# EAGLE library part TPS630250RNCR (library TPS630250RNCR)
Switching Voltage Regulators 4-A switch single-in ductor buck-boost c A 595-TPS630250RNCT Source: Datasheet <https://www.ti.com/lit/ds/symlink/tps630252.pdf?ts=1777081971757&ref_url=https%3A%2F%2Fwww.mouser.com%2F>
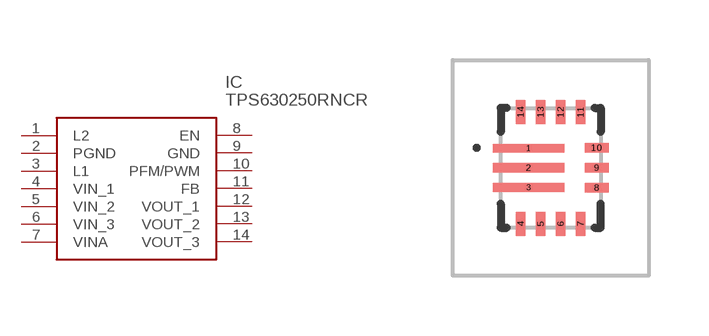
[diagram p0: symbol with the pads of TPS630250RNCR; footprint TPS630250RNCR]

Designator prefix IC

## TPS630250RNCR (Arrow_Part_Number: TPS630250RNCR; Arrow_Price-Stock: https://www.arrow.com/en/products/tps630250rncr/texas-instruments.html?utm_currency=USD&region=nac; Description: Switching Voltage Regulators 4-A switch single-in ductor buck-boost c A 595-TPS630250RNCT; Height: 1mm; Manufacturer_Name: Texas Instruments; Manufacturer_Part_Number: TPS630250RNCR; Mouser_Part_Number: 595-TPS630250RNCR; Mouser_Price-Stock: https://www.mouser.co.uk/ProductDetail/Texas-Instruments/TPS630250RNCR?qs=G5PZsBocSXu6AhBK6FRPEQ%3D%3D)  [TPS630250RNCR]
1  L2
2  PGND
3  L1
4  VIN_1
5  VIN_2
6  VIN_3
7  VINA
8  EN
9  GND
10  PFM/PWM
11  FB
12  VOUT_1
13  VOUT_2
14  VOUT_3

## Footprint TPS630250RNCR (pad centres in mm)
TPS630250RNCR-1
smd 1.79 x 0.22: 1 -0.555,0.49; 3 -0.555,-0.49
smd 1.79 x 0.24: 2 -0.555,0
smd 0.24 x 0.6: 4 -0.75,-1.4; 5 -0.25,-1.4; 6 0.25,-1.4; 7 0.75,-1.4; 11 0.75,1.4; 12 0.25,1.4; 13 -0.25,1.4; 14 -0.75,1.4
smd 0.6 x 0.24: 8 1.15,-0.5; 9 1.15,0; 10 1.15,0.5